# EAGLE library part TMCM-110 (library TMCM)
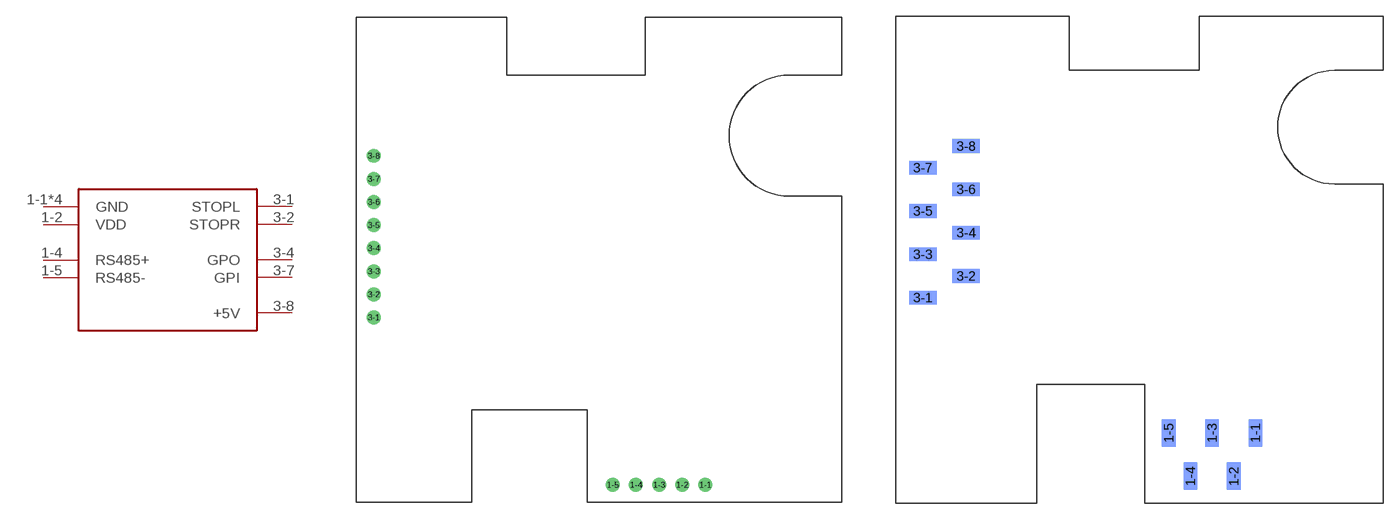
[diagram p0: symbol with the pads of TMCM-110; footprints TMCM-110, TMCM-110_SMD]

Designator prefix -

## TMCM-110PTH  [TMCM-110]
1-1  GND
1-2  VDD
1-3  GND
1-4  RS485+
1-5  RS485-
3-1  STOPL
3-2  STOPR
3-3  GND
3-4  GPO
3-6  GND
3-7  GPI
3-8  +5V

## TMCM-110SMD  [TMCM-110_SMD]
Pads as for TMCM-110

## Footprint TMCM-110 (pad centres in mm)
drill 0.7: 1-1 30.2,1.5; 1-2 28.2,1.5; 1-3 26.2,1.5; 1-4 24.2,1.5; 1-5 22.2,1.5; 3-1 1.5,16; 3-2 1.5,18; 3-3 1.5,20; 3-4 1.5,22; 3-5 1.5,24; 3-6 1.5,26; 3-7 1.5,28; 3-8 1.5,30

## Footprint TMCM-110_SMD (pad centres in mm)
smd 1.27 x 2.54 bottom: 1-1 30.2,3.5; 1-2 28.2,-0.5; 1-3 26.2,3.5; 1-4 24.2,-0.5; 1-5 22.2,3.5
smd 2.54 x 1.27 bottom: 3-1 -0.5,16; 3-2 3.5,18; 3-3 -0.5,20; 3-4 3.5,22; 3-5 -0.5,24; 3-6 3.5,26; 3-7 -0.5,28; 3-8 3.5,30